# EAGLE library part LMV7219M5X (library ruark2)
Comparator General Purpose Push-Pull, Rail-to-Rail SOT-23-5 (OPA320 pinout compatible)
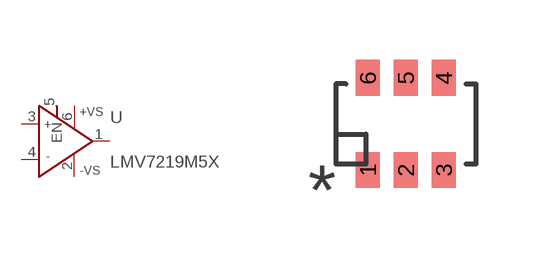
[diagram p173: symbol with the pads of SOT23-6; footprint SOT23-6]

Designator prefix U

## LMV7219M5X (PARTNO: LMV7219M5X-ND)  [SOT23-6]
1  OUT  out
2  -VS  in
3  IN+  in
4  IN-  in
5  EN
6  +VS  in

## Footprint SOT23-6 (pad centres in mm)
smd 0.6 x 0.9: 1 -0.95,-1.15; 2 0,-1.15; 3 0.95,-1.15; 4 0.95,1.15; 5 0,1.15; 6 -0.95,1.15